# Altium schematic symbol library TelemetryV3.SchLib: 3 symbols
Pins are listed as number, name and electrical type; pins without a type are passive.

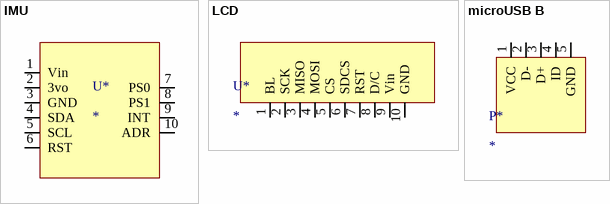
[diagram p0: symbols IMU to microUSB B]

## IMU
designator U*
footprint IMU
pins: 1 Vin (power), 2 3vo (power), 3 GND (power), 4 SDA (power), 5 SCL (power), 6 RST (power), 7 PS0, 8 PS1, 9 INT, 10 ADR

## LCD
designator U*
footprint LCD
pins: 1 BL, 2 SCK, 3 MISO, 4 MOSI, 5 CS, 6 SDCS, 7 RST, 8 D/C, 9 Vin (power), 10 GND (power)

## microUSB B
designator P*
footprint microUSB B
pins: 1 VCC (power), 2 D- (power), 3 D+ (power), 4 ID (power), 5 GND (power)